# EAGLE library part 691414720008 (library Terminal_Blocks_Connectors_rev15e)
WR-TBL Terminal block - serie 4147 5,00mm - Spring clamp/Screwless - 45° entry - 08p Code:Con_TBL_Screwless_5.00_6914147200xx_691414720008 <http://katalog.we-online.de/media/images/eican/Con_TBL_Screwless_5.00_6914147200xx_pf2.jpg> Details see: http://katalog.we-online.de/en/em/691_414_720_0xxB/691_414_720_008B?m Created 2014-12-22, aslant tao 2014 (C) Würth Elektronik
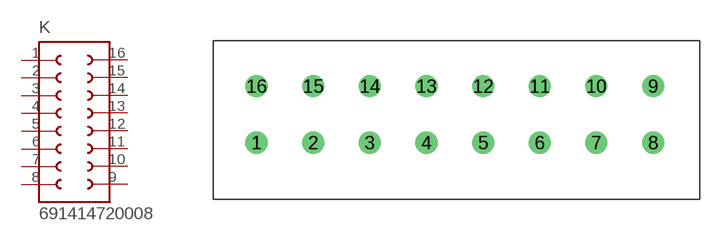
[diagram p258: symbol with the pads of 691414720008; footprint 691414720008]

Designator prefix K

## 691414720008  [691414720008]
1  1  pas
2  2  pas
3  3  pas
4  4  pas
5  5  pas
6  6  pas
7  7  pas
8  8  pas
9  9  pas
10  10  pas
11  11  pas
12  12  pas
13  13  pas
14  14  pas
15  15  pas
16  16  pas

## Footprint 691414720008 (pad centres in mm)
WR-TBL Serie 4147 - 5.0mm Screwless 45° Entry - 3 mm2 Wires, 8 Pins
drill 1.3: 1 -5,0; 2 0,0; 3 5,0; 4 10,0; 5 15,0; 6 20,0; 7 25,0; 8 30,0; 9 30,5; 10 25,5; 11 20,5; 12 15,5; 13 10,5; 14 5,5; 15 0,5; 16 -5,5